# Altium schematic symbol library IC芯片.SchLib: 68 symbols
Pins are listed as number, name and electrical type; pins without a type are passive.

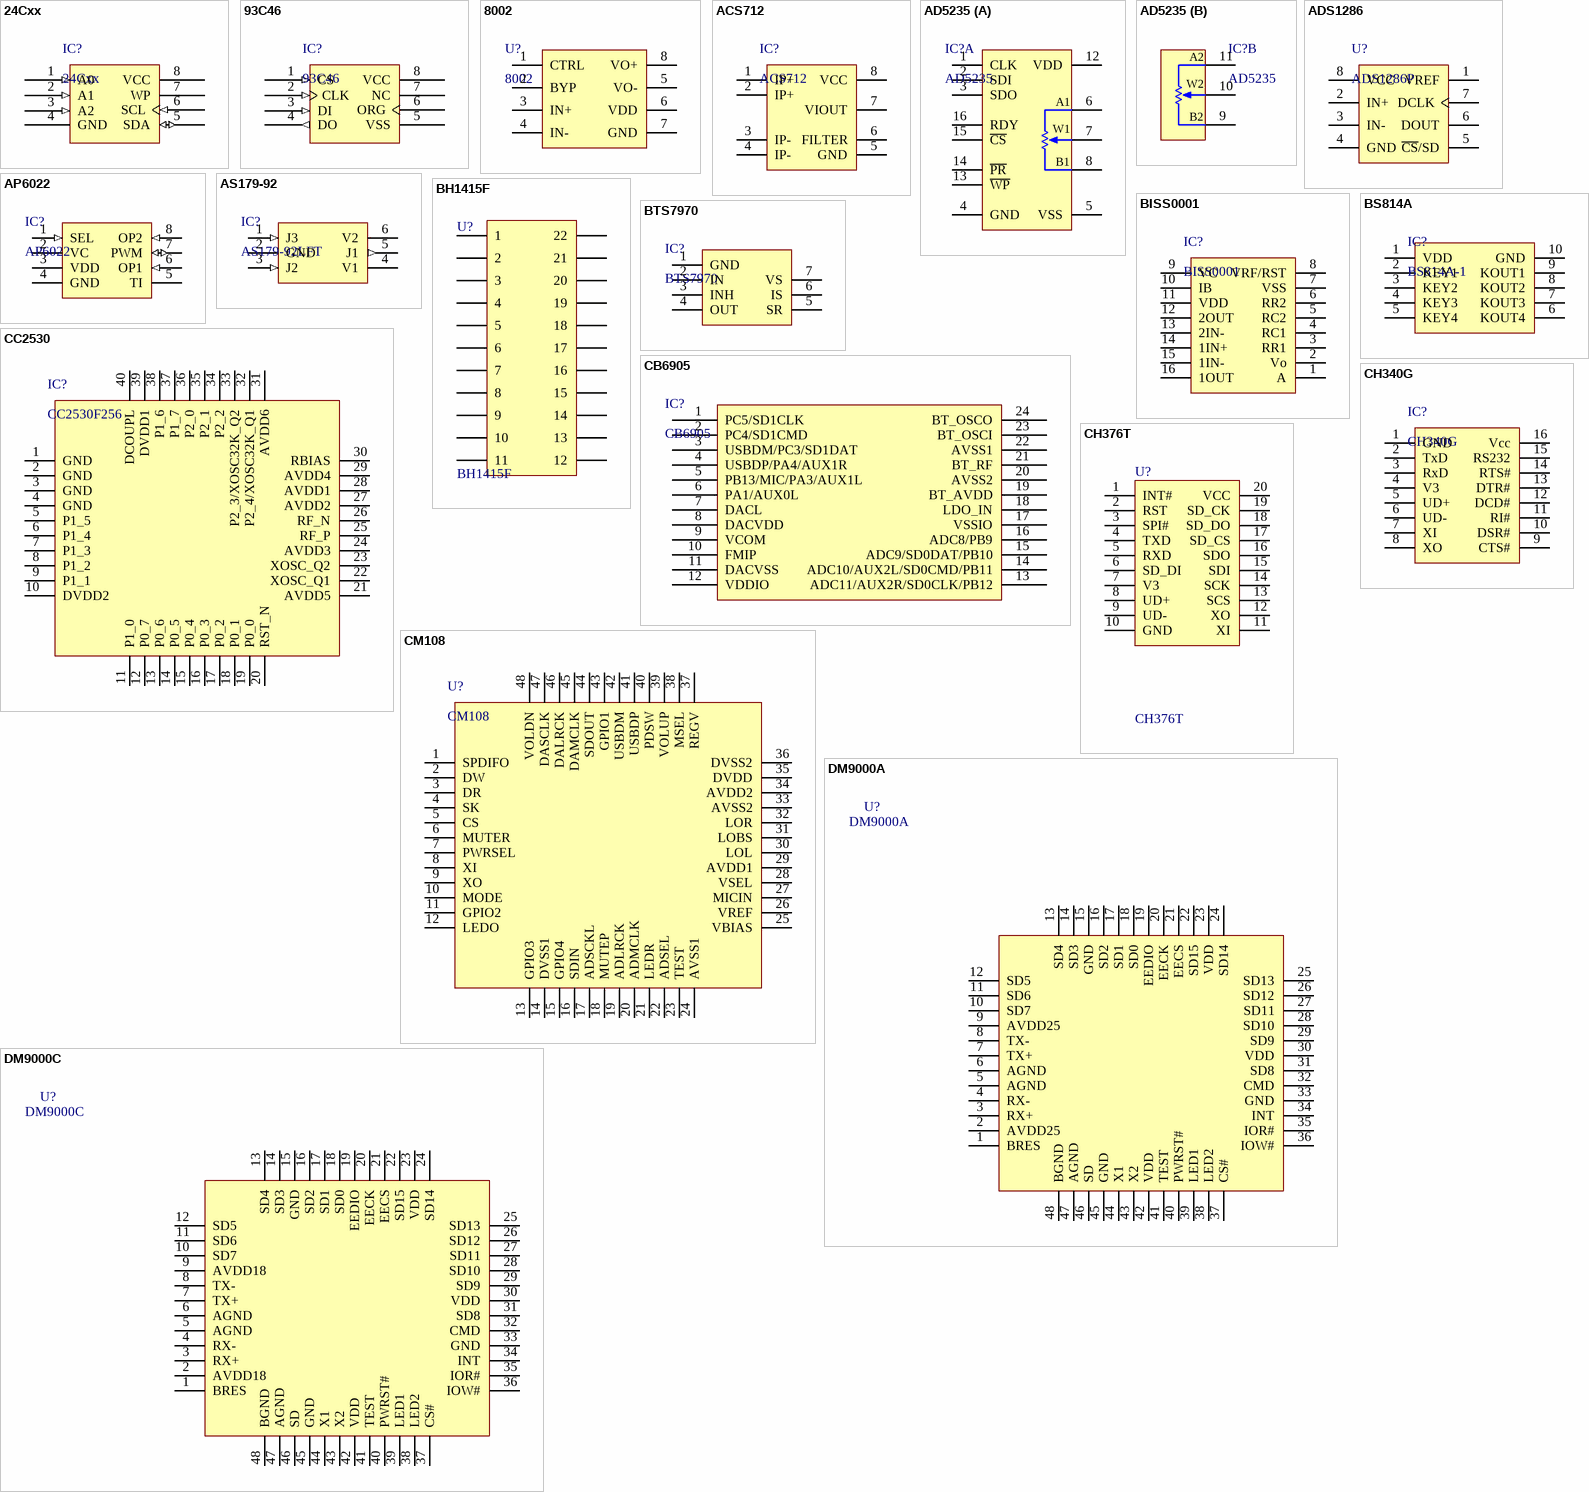
[diagram p0: symbols 24Cxx to DM9000C]

## 24Cxx
designator IC?
外置EEPROM; 版权归属: 源创客; BOM名称: 外置EEPROM; 学习资源: www.ooocke.com
footprint SOP8_L (5*6*1.8mm（长宽高）)
footprint SOP8_N (5*6*1.8mm（长宽高）)
footprint SOP8_M (5*6*1.8mm（长宽高）)
pins: 1 A0 (in), 2 A1 (in), 3 A2 (in), 4 GND, 5 SDA (io), 6 SCL (in), 7 WP, 8 VCC (power)

## 93C46
designator IC?
外置EEPROM; 版权归属: 源创客; BOM名称: 外置EEPROM; 学习资源: www.ooocke.com
footprint SOP8_L (5*6*1.8mm（长宽高）)
footprint SOP8_N (5*6*1.8mm（长宽高）)
footprint SOP8_M (5*6*1.8mm（长宽高）)
footprint DIP8-300_MH (带底座 9.4*7.6*3.8(长宽高）)
footprint DIP8-300 (9.4*7.6*3.8(长宽高）)
pins: 1 CS (in), 2 CLK (in), 3 DI (in), 4 DO (out), 5 VSS, 6 ORG, 7 NC, 8 VCC (power)

## 8002
designator U?
3W功放芯片; 版权归属: 源创客; BOM名称: 3W功放芯片; 学习资源: www.ooocke.com
footprint SOP8_N (5*6*1.8mm（长宽高）)
footprint SOP8_L (4*5*1.8mm（长宽高）)
footprint SOP8_M (5*6*1.8mm（长宽高）)
pins: 1 CTRL, 2 BYP, 3 IN+, 4 IN-, 5 VO-, 6 VDD, 7 GND, 8 VO+

## ACS712
designator IC?
电流检测芯片; 版权归属: 源创客; BOM名称: 电流检测芯片; 学习资源: www.ooocke.com
footprint SOP8_N (5*6*1.8mm（长宽高）)
footprint SOP8_L (5*6*1.8mm（长宽高）)
footprint SOP8_M (5*6*1.8mm（长宽高）)
pins: 1 IP+, 2 IP+, 3 IP-, 4 IP-, 5 GND, 6 FILTER, 7 VIOUT, 8 VCC

## AD5235
designator IC?
数字电位器; 版权归属: 源创客; BOM名称: 数字电位器; 学习资源: www.ooocke.com
footprint TSSOP16_N (5*6.4*1mm（长宽高）)
footprint TSSOP16_L (5*6.4*1mm（长宽高）)
footprint TSSOP16_M (5*6.4*1mm（长宽高）)
part A pins: 1 CLK, 2 SDI, 3 SDO, 4 GND, 5 VSS, 6 A1, 7 W1, 8 B1, 12 VDD, 13 ~{WP}, 14 ~{PR}, 15 ~{CS}, 16 RDY
part B pins: 9 B2, 10 W2, 11 A2

## ADS1286
designator U?, comment ADS1286P
12位数模转换芯片; 版权归属: 源创客; BOM名称: 12位数模转换芯片; 学习资源: www.ooocke.com
footprint SOP8_L (5*6*1.8mm（长宽高）)
footprint SOP8_M (5*6*1.8mm（长宽高）)
footprint SOP8_N (5*6*1.8mm（长宽高）)
footprint DIP8-300 (9.4*7.6*3.8(长宽高）)
footprint DIP8-300_MH (带底座 9.4*7.6*3.8(长宽高）)
pins: 1 VREF, 2 IN+, 3 IN-, 4 GND, 5 ~{CS}/SD, 6 DOUT, 7 DCLK, 8 VCC

## AP6022
designator IC?
单触摸PWM输出; 版权归属: 源创客; BOM名称: 单触摸PWM输出; 学习资源: www.ooocke.com
footprint SOP8_N (5*6*1.8mm（长宽高）)
footprint SOP8_L (5*6*1.8mm（长宽高）)
footprint SOP8_M (5*6*1.8mm（长宽高）)
pins: 1 SEL (in), 2 VC, 3 VDD (power), 4 GND (power), 5 TI, 6 OP1 (in), 7 PWM (io), 8 OP2 (in)

## AS179-92
designator IC?, comment AS179-92LFT
射频开关芯片; 版权归属: 源创客; BOM名称: 射频开关芯片; 学习资源: www.ooocke.com
footprint SOT36-3N
pins: 1 J3 (in), 2 GND, 3 J2 (in), 4 V1, 5 J1 (out), 6 V2

## BH1415F
designator U?
数字调频发射器; 版权归属: 源创客; BOM名称: 数字调频发射器; 学习资源: www.ooocke.com
footprint SOP22_N (13.6*5.4*1.8mm（长宽高）)
footprint SOP22_L (13.6*5.4*1.8mm（长宽高）)
footprint SOP22_M (13.6*5.4*1.8mm（长宽高）)
pins: 1, 2, 3, 4, 5, 6, 7, 8, 9, 10, 11, 12, 13, 14, 15, 16, 17, 18, 19, 20, 21, 22

## BISS0001
designator IC?
人体红外专用芯片; BOM名称: BIS0001; 版权归属: 源创客; 学习资源: www.ooocke.com
footprint SOP16_N (10.3*6.2*1.8mm（长宽高）)
footprint SOP16_L (10.3*6.2*1.8mm（长宽高）)
footprint SOP16_M (10.3*6.2*1.8mm（长宽高）)
pins: 1 A, 2 Vo, 3 RR1, 4 RC1, 5 RC2, 6 RR2, 7 VSS, 8 VRF/RST, 9 VC, 10 IB, 11 VDD, 12 2OUT, 13 2IN-, 14 1IN+, 15 1IN-, 16 1OUT

## BS814A
designator IC?, comment BS814A-1
4键电容触摸按键芯片; 版权归属: 源创客; BOM名称: 4键电容触摸按键芯片; 学习资源: www.ooocke.com
footprint MSOP10_L (塑封体长3mm，宽3mm，脚距0.5)
footprint MSOP10_N (塑封体长3mm，宽3mm，脚距0.5)
footprint MSOP10_M (塑封体长3mm，宽3mm，脚距0.5)
pins: 1 VDD, 2 KEY1, 3 KEY2, 4 KEY3, 5 KEY4, 6 KOUT4, 7 KOUT3, 8 KOUT2, 9 KOUT1, 10 GND

## BTS7970
designator IC?
电机驱动芯片; 版权归属: 源创客; BOM名称: 电机驱动芯片; 学习资源: www.ooocke.com
footprint TO263-7A (263，7脚晶体管)
footprint TO263-7B (263，7脚晶体管)
pins: 1 GND (power), 2 IN (power), 3 INH (power), 4 OUT (power), 5 SR (power), 6 IS (power), 7 VS (power)

## CB6905
designator IC?
蓝牙芯片; 版权归属: 源创客; BOM名称: 蓝牙芯片; 学习资源: www.ooocke.com
footprint QSOP24_N
pins: 1 PC5/SD1CLK, 2 PC4/SD1CMD, 3 USBDM/PC3/SD1DAT, 4 USBDP/PA4/AUX1R, 5 PB13/MIC/PA3/AUX1L, 6 PA1/AUX0L, 7 DACL, 8 DACVDD, 9 VCOM, 10 FMIP, 11 DACVSS, 12 VDDIO, 13 ADC11/AUX2R/SD0CLK/PB12, 14 ADC10/AUX2L/SD0CMD/PB11, 15 ADC9/SD0DAT/PB10, 16 ADC8/PB9, 17 VSSIO, 18 LDO_IN, 19 BT_AVDD, 20 AVSS2, 21 BT_RF, 22 AVSS1, 23 BT_OSCI, 24 BT_OSCO

## CC2530
designator IC?, comment CC2530F256
ZigBee2.4G无线组网芯片; 版权归属: 源创客; BOM名称: ZigBee2.4G无线组网芯片; 学习资源: www.ooocke.com
footprint QFN40 6X6_L (40脚，体宽：6x6mm，脚距：0.5mm)
footprint QFN40 6X6_M (40脚，体宽：6x6mm，脚距：0.5mm)
footprint QFN40 6X6_N (40脚，体宽：6x6mm，脚距：0.5mm)
pins: 1 GND, 2 GND, 3 GND, 4 GND, 5 P1_5, 6 P1_4, 7 P1_3, 8 P1_2, 9 P1_1, 10 DVDD2, 11 P1_0, 12 P0_7, 13 P0_6, 14 P0_5, 15 P0_4, 16 P0_3, 17 P0_2, 18 P0_1, 19 P0_0, 20 RST_N, 21 AVDD5, 22 XOSC_Q1, 23 XOSC_Q2, 24 AVDD3, 25 RF_P, 26 RF_N, 27 AVDD2, 28 AVDD1, 29 AVDD4, 30 RBIAS, 31 AVDD6, 32 P2_4/XOSC32K_Q1, 33 P2_3/XOSC32K_Q2, 34 P2_2, 35 P2_1, 36 P2_0, 37 P1_7, 38 P1_6, 39 DVDD1, 40 DCOUPL

## CH340G
designator IC?
串口转USB; 版权归属: 源创客; BOM名称: 串口转USB; 学习资源: www.ooocke.com
footprint SOP16_L (10.3*6.2*1.8mm（长宽高）)
footprint SOP16_N (10.3*6.2*1.8mm（长宽高）)
footprint SOP16_M (10.3*6.2*1.8mm（长宽高）)
footprint DIP16-300 (19.3*7.6*3.8(长宽高）)
pins: 1 GND, 2 TxD, 3 RxD, 4 V3, 5 UD+, 6 UD-, 7 XI, 8 XO, 9 CTS#, 10 DSR#, 11 RI#, 12 DCD#, 13 DTR#, 14 RTS#, 15 RS232, 16 Vcc

## CH376T
designator U?
USB控制器; 版权归属: 源创客; BOM名称: USB控制器; 学习资源: www.ooocke.com
footprint SSOP20_N (7.2*7.8*1.6（长宽高）)
footprint SSOP20_L (7.2*7.8*1.6（长宽高）)
footprint SSOP20_M (7.2*7.8*1.6（长宽高）)
pins: 1 INT#, 2 RST, 3 SPI#, 4 TXD, 5 RXD, 6 SD_DI, 7 V3, 8 UD+, 9 UD-, 10 GND, 11 XI, 12 XO, 13 SCS, 14 SCK, 15 SDI, 16 SDO, 17 SD_CS, 18 SD_DO, 19 SD_CK, 20 VCC

## CM108
designator U?
USB耳机声卡; 版权归属: 源创客; BOM名称: USB耳机声卡; 学习资源: www.ooocke.com
footprint LQFP48 7X7_N (48脚，体宽7x7mm，脚距0.5mm)
footprint LQFP48 7X7_L (48脚，体宽7x7mm，脚距0.5mm)
footprint LQFP48 7X7_M (48脚，体宽7x7mm，脚距0.5mm)
pins: 1 SPDIFO, 2 DW, 3 DR, 4 SK, 5 CS, 6 MUTER, 7 PWRSEL, 8 XI, 9 XO, 10 MODE, 11 GPIO2, 12 LEDO, 13 GPIO3, 14 DVSS1, 15 GPIO4, 16 SDIN, 17 ADSCKL, 18 MUTEP, 19 ADLRCK, 20 ADMCLK, 21 LEDR, 22 ADSEL, 23 TEST, 24 AVSS1, 25 VBIAS, 26 VREF, 27 MICIN, 28 VSEL, 29 AVDD1, 30 LOL, 31 LOBS, 32 LOR, 33 AVSS2, 34 AVDD2, 35 DVDD, 36 DVSS2, 37 REGV, 38 MSEL, 39 VOLUP, 40 PDSW, 41 USBDP, 42 USBDM, 43 GPIO1, 44 SDOUT, 45 DAMCLK, 46 DALRCK, 47 DASCLK, 48 VOLDN

## DM9000A
designator U?
网络芯片; 版权归属: 源创客; BOM名称: 网络芯片; 学习资源: www.ooocke.com
footprint LQFP48 7X7_N (48脚，体宽7x7mm，脚距0.5mm)
footprint LQFP48 7X7_L (48脚，体宽7x7mm，脚距0.5mm)
footprint LQFP48 7X7_M (48脚，体宽7x7mm，脚距0.5mm)
pins: 1 BRES, 2 AVDD25, 3 RX+, 4 RX-, 5 AGND, 6 AGND, 7 TX+, 8 TX-, 9 AVDD25, 10 SD7, 11 SD6, 12 SD5, 13 SD4, 14 SD3, 15 GND, 16 SD2, 17 SD1, 18 SD0, 19 EEDIO, 20 EECK, 21 EECS, 22 SD15, 23 VDD, 24 SD14, 25 SD13, 26 SD12, 27 SD11, 28 SD10, 29 SD9, 30 VDD, 31 SD8, 32 CMD, 33 GND, 34 INT, 35 IOR#, 36 IOW#, 37 CS#, 38 LED2, 39 LED1, 40 PWRST#, 41 TEST, 42 VDD, 43 X2, 44 X1, 45 GND, 46 SD, 47 AGND, 48 BGND

## DM9000C
designator U?
网络芯片; 版权归属: 源创客; BOM名称: 网络芯片; 学习资源: www.ooocke.com
footprint LQFP48 7X7_N (48脚，体宽7x7mm，脚距0.5mm)
footprint LQFP48 7X7_L (48脚，体宽7x7mm，脚距0.5mm)
footprint LQFP48 7X7_M (48脚，体宽7x7mm，脚距0.5mm)
pins: 1 BRES, 2 AVDD18, 3 RX+, 4 RX-, 5 AGND, 6 AGND, 7 TX+, 8 TX-, 9 AVDD18, 10 SD7, 11 SD6, 12 SD5, 13 SD4, 14 SD3, 15 GND, 16 SD2, 17 SD1, 18 SD0, 19 EEDIO, 20 EECK, 21 EECS, 22 SD15, 23 VDD, 24 SD14, 25 SD13, 26 SD12, 27 SD11, 28 SD10, 29 SD9, 30 VDD, 31 SD8, 32 CMD, 33 GND, 34 INT, 35 IOR#, 36 IOW#, 37 CS#, 38 LED2, 39 LED1, 40 PWRST#, 41 TEST, 42 VDD, 43 X2, 44 X1, 45 GND, 46 SD, 47 AGND, 48 BGND

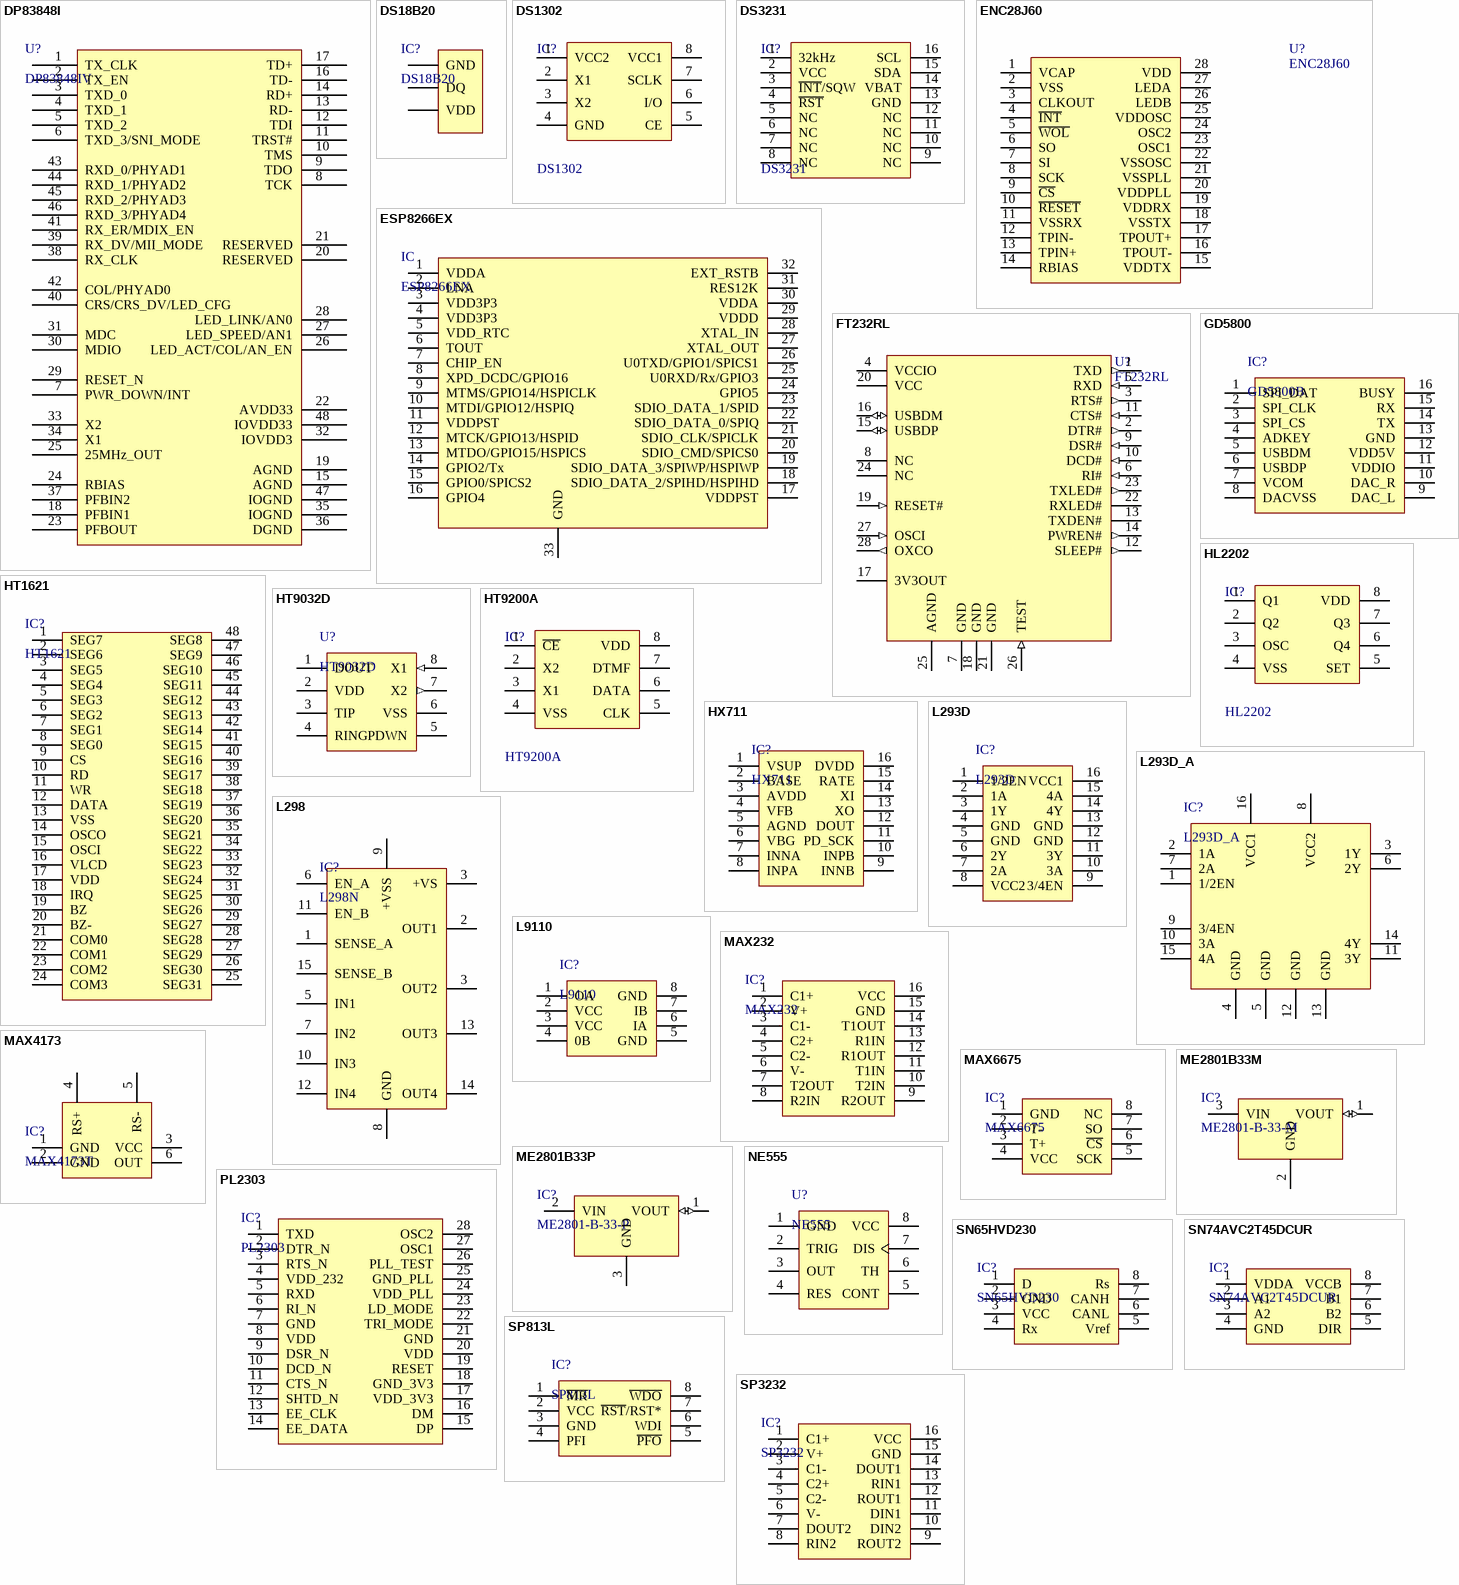
[diagram p1: symbols DP83848I to SP3232]

## DP83848I
designator U?, comment DP83848IV
网络芯片; 版权归属: 源创客; BOM名称: 网络芯片; 学习资源: www.ooocke.com
footprint LQFP48 7X7_N (48脚，体宽7x7mm，脚距0.5mm)
footprint LQFP48 7X7_L (48脚，体宽7x7mm，脚距0.5mm)
footprint LQFP48 7X7_M (48脚，体宽7x7mm，脚距0.5mm)
pins: 1 TX_CLK, 2 TX_EN, 3 TXD_0, 4 TXD_1, 5 TXD_2, 6 TXD_3/SNI_MODE, 7 PWR_DOWN/INT, 8 TCK, 9 TDO, 10 TMS, 11 TRST#, 12 TDI, 13 RD-, 14 RD+, 15 AGND, 16 TD-, 17 TD+, 18 PFBIN1, 19 AGND, 20 RESERVED, 21 RESERVED, 22 AVDD33, 23 PFBOUT, 24 RBIAS, 25 25MHz_OUT, 26 LED_ACT/COL/AN_EN, 27 LED_SPEED/AN1, 28 LED_LINK/AN0, 29 RESET_N, 30 MDIO, 31 MDC, 32 IOVDD3, 33 X2, 34 X1, 35 IOGND, 36 DGND, 37 PFBIN2, 38 RX_CLK, 39 RX_DV/MII_MODE, 40 CRS/CRS_DV/LED_CFG, 41 RX_ER/MDIX_EN, 42 COL/PHYAD0, 43 RXD_0/PHYAD1, 44 RXD_1/PHYAD2, 45 RXD_2/PHYAD3, 46 RXD_3/PHYAD4, 47 IOGND, 48 IOVDD33

## DS18B20
designator IC?
数字温度计; 版权归属: 源创客; BOM名称: 数字温度计; 学习资源: www.ooocke.com
footprint TO92A (92晶体管)
footprint TO92B (92晶体管)
pins: 1 GND, 2 DQ, 3 VDD

## DS1302
designator IC?
实时时钟芯片; 版权归属: 源创客; BOM名称: 实时时钟芯片; 学习资源: www.ooocke.com
footprint SOP8_N (5*6*1.8mm（长宽高）)
footprint SOP8_L (5*6*1.8mm（长宽高）)
footprint SOP8_M (5*6*1.8mm（长宽高）)
footprint DIP8-300 (9.4*7.6*3.8(长宽高）)
pins: 1 VCC2, 2 X1, 3 X2, 4 GND, 5 CE, 6 I/O, 7 SCLK, 8 VCC1

## DS3231
designator IC?
高精度时钟芯片; 版权归属: 源创客; BOM名称: 高精度时钟芯片; 学习资源: www.ooocke.com
footprint SOP16W_N (10.3*10.3*2.6mm（长宽高）)
footprint SOP16W_L (10.3*10.3*2.6mm（长宽高）)
footprint SOP16W_M (10.3*10.3*2.6mm（长宽高）)
pins: 1 32kHz, 2 VCC, 3 ~{INT}/SQW, 4 ~{RST}, 5 NC, 6 NC, 7 NC, 8 NC, 9 NC, 10 NC, 11 NC, 12 NC, 13 GND, 14 VBAT, 15 SDA, 16 SCL

## ENC28J60
designator U?
SPI以太网控制芯片; 版权归属: 源创客; BOM名称: SPI以太网控制芯片; 学习资源: www.ooocke.com
footprint SSOP28_N (10.2*7.8*1.9mm(长宽高）)
footprint SSOP28_L (10.2*7.8*1.9mm(长宽高）)
footprint SSOP28_M (10.2*7.8*1.9mm(长宽高）)
pins: 1 VCAP, 2 VSS, 3 CLKOUT, 4 ~{INT}, 5 ~{WOL}, 6 SO, 7 SI, 8 SCK, 9 ~{CS}, 10 ~{RESET}, 11 VSSRX, 12 TPIN-, 13 TPIN+, 14 RBIAS, 15 VDDTX, 16 TPOUT-, 17 TPOUT+, 18 VSSTX, 19 VDDRX, 20 VDDPLL, 21 VSSPLL, 22 VSSOSC, 23 OSC1, 24 OSC2, 25 VDDOSC, 26 LEDB, 27 LEDA, 28 VDD

## ESP8266EX
designator IC
WIFI-芯片; 版权归属: 源创客; BOM名称: WIFI-芯片; 学习资源: www.ooocke.com
footprint QFN32 5x5_L (32脚，长：5mm，宽：5mm，高：9.5mm)
footprint QFN32 5x5_M (32脚，长：5mm，宽：5mm，高：9.5mm)
footprint QFN32 5x5_N (32脚，长：5mm，宽：5mm，高：9.5mm)
pins: 1 VDDA, 2 LNA, 3 VDD3P3, 4 VDD3P3, 5 VDD_RTC, 6 TOUT, 7 CHIP_EN, 8 XPD_DCDC/GPIO16, 9 MTMS/GPIO14/HSPICLK, 10 MTDI/GPIO12/HSPIQ, 11 VDDPST, 12 MTCK/GPIO13/HSPID, 13 MTDO/GPIO15/HSPICS, 14 GPIO2/Tx, 15 GPIO0/SPICS2, 16 GPIO4, 17 VDDPST, 18 SDIO_DATA_2/SPIHD/HSPIHD, 19 SDIO_DATA_3/SPIWP/HSPIWP, 20 SDIO_CMD/SPICS0, 21 SDIO_CLK/SPICLK, 22 SDIO_DATA_0/SPIQ, 23 SDIO_DATA_1/SPID, 24 GPIO5, 25 U0RXD/Rx/GPIO3, 26 U0TXD/GPIO1/SPICS1, 27 XTAL_OUT, 28 XTAL_IN, 29 VDDD, 30 VDDA, 31 RES12K, 32 EXT_RSTB, 33 GND

## FT232RL
designator U?
USB转串口; 版权归属: 源创客; BOM名称: USB转串口; 学习资源: www.ooocke.com
footprint SSOP28_N (10.2*7.8*1.9mm(长宽高）)
footprint SSOP28_L (10.2*7.8*1.9mm(长宽高）)
footprint SSOP28_M (10.2*7.8*1.9mm(长宽高）)
pins: 1 TXD (out), 2 DTR# (out), 3 RTS# (out), 4 VCCIO (power), 5 RXD (in), 6 RI# (in), 7 GND (power), 8 NC, 9 DSR# (in), 10 DCD# (in), 11 CTS# (in), 12 SLEEP# (out), 13 TXDEN# (oc), 14 PWREN# (out), 15 USBDP (io), 16 USBDM (io), 17 3V3OUT (power), 18 GND (power), 19 RESET# (in), 20 VCC (power), 21 GND (power), 22 RXLED# (oc), 23 TXLED# (out), 24 NC, 25 AGND (power), 26 TEST (in), 27 OSCI (in), 28 OXCO (out)

## GD5800
designator IC?, comment GD5800B
串口MP3语音芯片; 版权归属: 源创客; BOM名称: 串口MP3语音芯片; 学习资源: www.ooocke.com
footprint SOP16_L (10.3*6.2*1.8mm（长宽高）)
footprint SOP16_N (10.3*6.2*1.8mm（长宽高）)
footprint SOP16_M (10.3*6.2*1.8mm（长宽高）)
pins: 1 SPI_DAT, 2 SPI_CLK, 3 SPI_CS, 4 ADKEY, 5 USBDM, 6 USBDP, 7 VCOM, 8 DACVSS, 9 DAC_L, 10 DAC_R, 11 VDDIO, 12 VDD5V, 13 GND, 14 TX, 15 RX, 16 BUSY

## HL2202
designator IC?
灯光控制芯片; 版权归属: 源创客; BOM名称: 灯光控制芯片; 学习资源: www.ooocke.com
footprint SOP8_N (5*6*1.8mm（长宽高）)
footprint SOP8_L (5*6*1.8mm（长宽高）)
footprint SOP8_M (5*6*1.8mm（长宽高）)
footprint DIP8-300 (9.4*7.6*3.8(长宽高）)
pins: 1 Q1, 2 Q2, 3 OSC, 4 VSS, 5 SET, 6 Q4, 7 Q3, 8 VDD

## HT1621
designator IC?
LCD驱动芯片; 版权归属: 源创客; BOM名称: LCD驱动芯片; 学习资源: www.ooocke.com
footprint SSOP48_N (16*10.3*2.4mm（长宽高）)
footprint SSOP48_L (16*10.3*2.4mm（长宽高）)
footprint SSOP48_M (16*10.3*2.4mm（长宽高）)
pins: 1 SEG7, 2 SEG6, 3 SEG5, 4 SEG4, 5 SEG3, 6 SEG2, 7 SEG1, 8 SEG0, 9 CS, 10 RD, 11 WR, 12 DATA, 13 VSS, 14 OSCO, 15 OSCI, 16 VLCD, 17 VDD, 18 IRQ, 19 BZ, 20 BZ-, 21 COM0, 22 COM1, 23 COM2, 24 COM3, 25 SEG31, 26 SEG30, 27 SEG29, 28 SEG28, 29 SEG27, 30 SEG26, 31 SEG25, 32 SEG24, 33 SEG23, 34 SEG22, 35 SEG21, 36 SEG20, 37 SEG19, 38 SEG18, 39 SEG17, 40 SEG16, 41 SEG15, 42 SEG14, 43 SEG13, 44 SEG12, 45 SEG11, 46 SEG10, 47 SEG9, 48 SEG8

## HT9032D
designator U?
来电显示芯片; 版权归属: 源创客; BOM名称: 来电显示芯片; 学习资源: www.ooocke.com
footprint SOP8_L (5*6*1.8mm（长宽高）)
footprint SOP8_M (5*6*1.8mm（长宽高）)
footprint SOP8_N (5*6*1.8mm（长宽高）)
footprint DIP8-300 (9.4*7.6*3.8(长宽高）)
footprint DIP8-300_MH (带底座 9.4*7.6*3.8(长宽高）)
pins: 1 DOUT, 2 VDD, 3 TIP, 4 RING, 5 PDWN, 6 VSS, 7 X2 (out), 8 X1 (in)

## HT9200A
designator IC?
双音多频DTMF信号发生器; 版权归属: 源创客; BOM名称: 双音多频DTMF信号发生器; 学习资源: www.ooocke.com
footprint SOP8_N (5*6*1.8mm（长宽高）)
footprint SOP8_L (5*6*1.8mm（长宽高）)
footprint SOP8_M (5*6*1.8mm（长宽高）)
footprint DIP8-300 (9.4*7.6*3.8(长宽高）)
pins: 1 ~{CE}, 2 X2, 3 X1, 4 VSS, 5 CLK, 6 DATA, 7 DTMF, 8 VDD

## HX711
designator IC?
电子秤AD芯片; 版权归属: 源创客; BOM名称: 电子秤AD芯片; 学习资源: www.ooocke.com
footprint SOP16_N (10.3*6.2*1.8mm（长宽高）)
footprint SOP16_L (10.3*6.2*1.8mm（长宽高）)
footprint SOP16_M (10.3*6.2*1.8mm（长宽高）)
pins: 1 VSUP, 2 BASE, 3 AVDD, 4 VFB, 5 AGND, 6 VBG, 7 INNA, 8 INPA, 9 INNB, 10 INPB, 11 PD_SCK, 12 DOUT, 13 XO, 14 XI, 15 RATE, 16 DVDD

## L293D
designator IC?
电机驱动H桥; 版权归属: 源创客; BOM名称: 电机驱动H桥; 学习资源: www.ooocke.com
footprint DIP16-300 (19.3*7.6*3.8(长宽高）)
footprint DIP16-300_MH (带底座 19.3*7.6*3.8(长宽高）)
pins: 1 1/2EN, 2 1A, 3 1Y, 4 GND, 5 GND, 6 2Y, 7 2A, 8 VCC2, 9 3/4EN, 10 3A, 11 3Y, 12 GND, 13 GND, 14 4Y, 15 4A, 16 VCC1

## L293D_A
designator IC?
电机驱动H桥; 版权归属: 源创客; BOM名称: 电机驱动H桥; 学习资源: www.ooocke.com
footprint DIP16-300 (19.3*7.6*3.8(长宽高）)
footprint DIP16-300_MH (带底座 19.3*7.6*3.8(长宽高）)
pins: 1 1/2EN, 2 1A, 3 1Y, 4 GND, 5 GND, 6 2Y, 7 2A, 8 VCC2, 9 3/4EN, 10 3A, 11 3Y, 12 GND, 13 GND, 14 4Y, 15 4A, 16 VCC1

## L298
designator IC?, comment L298N
电机驱动H桥; 版权归属: 源创客; BOM名称: 电机驱动H桥; 学习资源: www.ooocke.com
footprint TO220-15T (ZIP15脚铁封)
pins: 1 SENSE_A, 2 OUT1, 3 OUT2, 3 +VS, 5 IN1, 6 EN_A, 7 IN2, 8 GND, 9 +VSS, 10 IN3, 11 EN_B, 12 IN4, 13 OUT3, 14 OUT4, 15 SENSE_B

## L9110
designator IC?
直流电机控制芯片; 版权归属: 源创客; BOM名称: 直流电机控制芯片; 学习资源: www.ooocke.com
footprint DIP8-300 (9.4*7.6*3.8(长宽高）)
footprint SOP8_L (5*6*1.8mm（长宽高）)
footprint SOP8_N (5*6*1.8mm（长宽高）)
footprint SOP8_M (5*6*1.8mm（长宽高）)
pins: 1 OA, 2 VCC, 3 VCC, 4 0B, 5 GND, 6 IA, 7 IB, 8 GND

## MAX232
designator IC?
版权归属: 源创客; BOM名称: MAX232; 学习资源: www.ooocke.com
footprint DIP16-300 (19.3*7.6*3.8(长宽高）)
footprint SOP16_L (10.3*6.2*1.8mm（长宽高）)
footprint SOP16_N (10.3*6.2*1.8mm（长宽高）)
footprint SOP16_M (10.3*6.2*1.8mm（长宽高）)
pins: 1 C1+, 2 V+, 3 C1-, 4 C2+, 5 C2-, 6 V-, 7 T2OUT, 8 R2IN, 9 R2OUT, 10 T2IN, 11 T1IN, 12 R1OUT, 13 R1IN, 14 T1OUT, 15 GND, 16 VCC

## MAX4173
designator IC?, comment MAX4173T
高端电流检测; 版权归属: 源创客; BOM名称: 高端电流检测; 学习资源: www.ooocke.com
footprint SOT23-6N (3x1.6x1.1mm(长宽高))
footprint SOT23-6L (3x1.6x1.1mm(长宽高))
footprint SOT23-6M (3x1.6x1.1mm(长宽高))
pins: 1 GND, 2 GND, 3 VCC, 4 RS+, 5 RS-, 6 OUT

## MAX6675
designator IC?
K型热电偶检测芯片; 版权归属: 源创客; BOM名称: K型热电偶检测芯片; 学习资源: www.ooocke.com
footprint SOP8_N (5*6*1.8mm（长宽高）)
footprint SOP8_L (5*6*1.8mm（长宽高）)
footprint SOP8_M (5*6*1.8mm（长宽高）)
pins: 1 GND, 2 T-, 3 T+, 4 VCC, 5 SCK, 6 ~{CS}, 7 SO, 8 NC

## ME2801B33M
designator IC?, comment ME2801-B-33-M
3.3V电压检测芯片; BOM名称: 电压检测芯片; 版权归属: 源创客; 描述: 复位低电平，CMOS型输出; 学习资源: www.ooocke.com
footprint SOT23-3N (3x1.3x1mm(长宽高))
footprint SOT23-3L (3x1.3x1mm(长宽高))
footprint SOT23-3M (3x1.3x1mm(长宽高))
pins: 1 VOUT (io), 2 GND (power), 3 VIN (power)

## ME2801B33P
designator IC?, comment ME2801-B-33-P
3.3V电压检测芯片; BOM名称: 电压检测芯片; 版权归属: 源创客; 描述: 复位低电平，CMOS型输出; 学习资源: www.ooocke.com
footprint SOT89_N (4.6x4.3x1.6mm(长宽高))
footprint SOT89_L (4.6x4.3x1.6mm(长宽高))
footprint SOT89_M (4.6x4.3x1.6mm(长宽高))
pins: 1 VOUT (io), 2 VIN (power), 3 GND (power)

## NE555
designator U?
单路时基芯片; 版权归属: 源创客; BOM名称: 单路时基芯片; 学习资源: www.ooocke.com
footprint SOP8_L (5*6*1.8mm（长宽高）)
footprint SOP8_M (5*6*1.8mm（长宽高）)
footprint SOP8_N (5*6*1.8mm（长宽高）)
footprint DIP8-300 (9.4*7.6*3.8(长宽高）)
footprint DIP8-300_MH (带底座 9.4*7.6*3.8(长宽高）)
pins: 1 GND, 2 TRIG, 3 OUT, 4 RES, 5 CONT, 6 TH, 7 DIS, 8 VCC

## PL2303
designator IC?
USB转RS232; 版权归属: 源创客; BOM名称: USB转RS232; 学习资源: www.ooocke.com
footprint SSOP28_N (10.2*7.8*1.9mm(长宽高）)
footprint SSOP28_L (10.2*7.8*1.9mm(长宽高）)
footprint SSOP28_M (10.2*7.8*1.9mm(长宽高）)
pins: 1 TXD, 2 DTR_N, 3 RTS_N, 4 VDD_232, 5 RXD, 6 RI_N, 7 GND, 8 VDD, 9 DSR_N, 10 DCD_N, 11 CTS_N, 12 SHTD_N, 13 EE_CLK, 14 EE_DATA, 15 DP, 16 DM, 17 VDD_3V3, 18 GND_3V3, 19 RESET, 20 VDD, 21 GND, 22 TRI_MODE, 23 LD_MODE, 24 VDD_PLL, 25 GND_PLL, 26 PLL_TEST, 27 OSC1, 28 OSC2

## SN65HVD230
designator IC?
CAN芯片; 版权归属: 源创客; BOM名称: CAN芯片; 学习资源: www.ooocke.com
footprint SOP8_N (5*6*1.8mm（长宽高）)
footprint SOP8_L (5*6*1.8mm（长宽高）)
footprint SOP8_M (5*6*1.8mm（长宽高）)
pins: 1 D, 2 GND, 3 VCC, 4 Rx, 5 Vref, 6 CANL, 7 CANH, 8 Rs

## SN74AVC2T45DCUR
designator IC?
3态输出; BOM名称: 双位3态输出; 版权归属: 源创客; 学习资源: www.ooocke.com
footprint TSSOP8_N (规格：3*6.4*1.1mm（长宽高）)
footprint TSSOP8_l (3*4.2*1mm（长宽高）)
footprint TSSOP8_M (3*4.2*1mm（长宽高）)
pins: 1 VDDA, 2 A1, 3 A2, 4 GND, 5 DIR, 6 B2, 7 B1, 8 VCCB

## SP813L
designator IC?
处理器监控芯片; 版权归属: 源创客; BOM名称: 处理器监控芯片; 学习资源: www.ooocke.com
footprint SOP8_L (5*6*1.8mm（长宽高）)
footprint SOP8_N (5*6*1.8mm（长宽高）)
footprint SOP8_M (5*6*1.8mm（长宽高）)
pins: 1 ~{MR}, 2 VCC, 3 GND, 4 PFI, 5 ~{PFO}, 6 WDI, 7 ~{RST}/RST*, 8 ~{WDO}

## SP3232
designator IC?
RS232通讯芯片; 版权归属: 源创客; BOM名称: RS232通讯芯片; 学习资源: www.ooocke.com
footprint DIP16-300 (19.3*7.6*3.8(长宽高）)
footprint SOP16_L (10.3*6.2*1.8mm（长宽高）)
footprint SOP16_N (10.3*6.2*1.8mm（长宽高）)
footprint SOP16_M (10.3*6.2*1.8mm（长宽高）)
footprint TSSOP16_L (5*6.4*1mm（长宽高）)
footprint TSSOP16_M (5*6.4*1mm（长宽高）)
footprint TSSOP16_N (5*6.4*1mm（长宽高）)
pins: 1 C1+, 2 V+, 3 C1-, 4 C2+, 5 C2-, 6 V-, 7 DOUT2, 8 RIN2, 9 ROUT2, 10 DIN2, 11 DIN1, 12 ROUT1, 13 RIN1, 14 DOUT1, 15 GND, 16 VCC

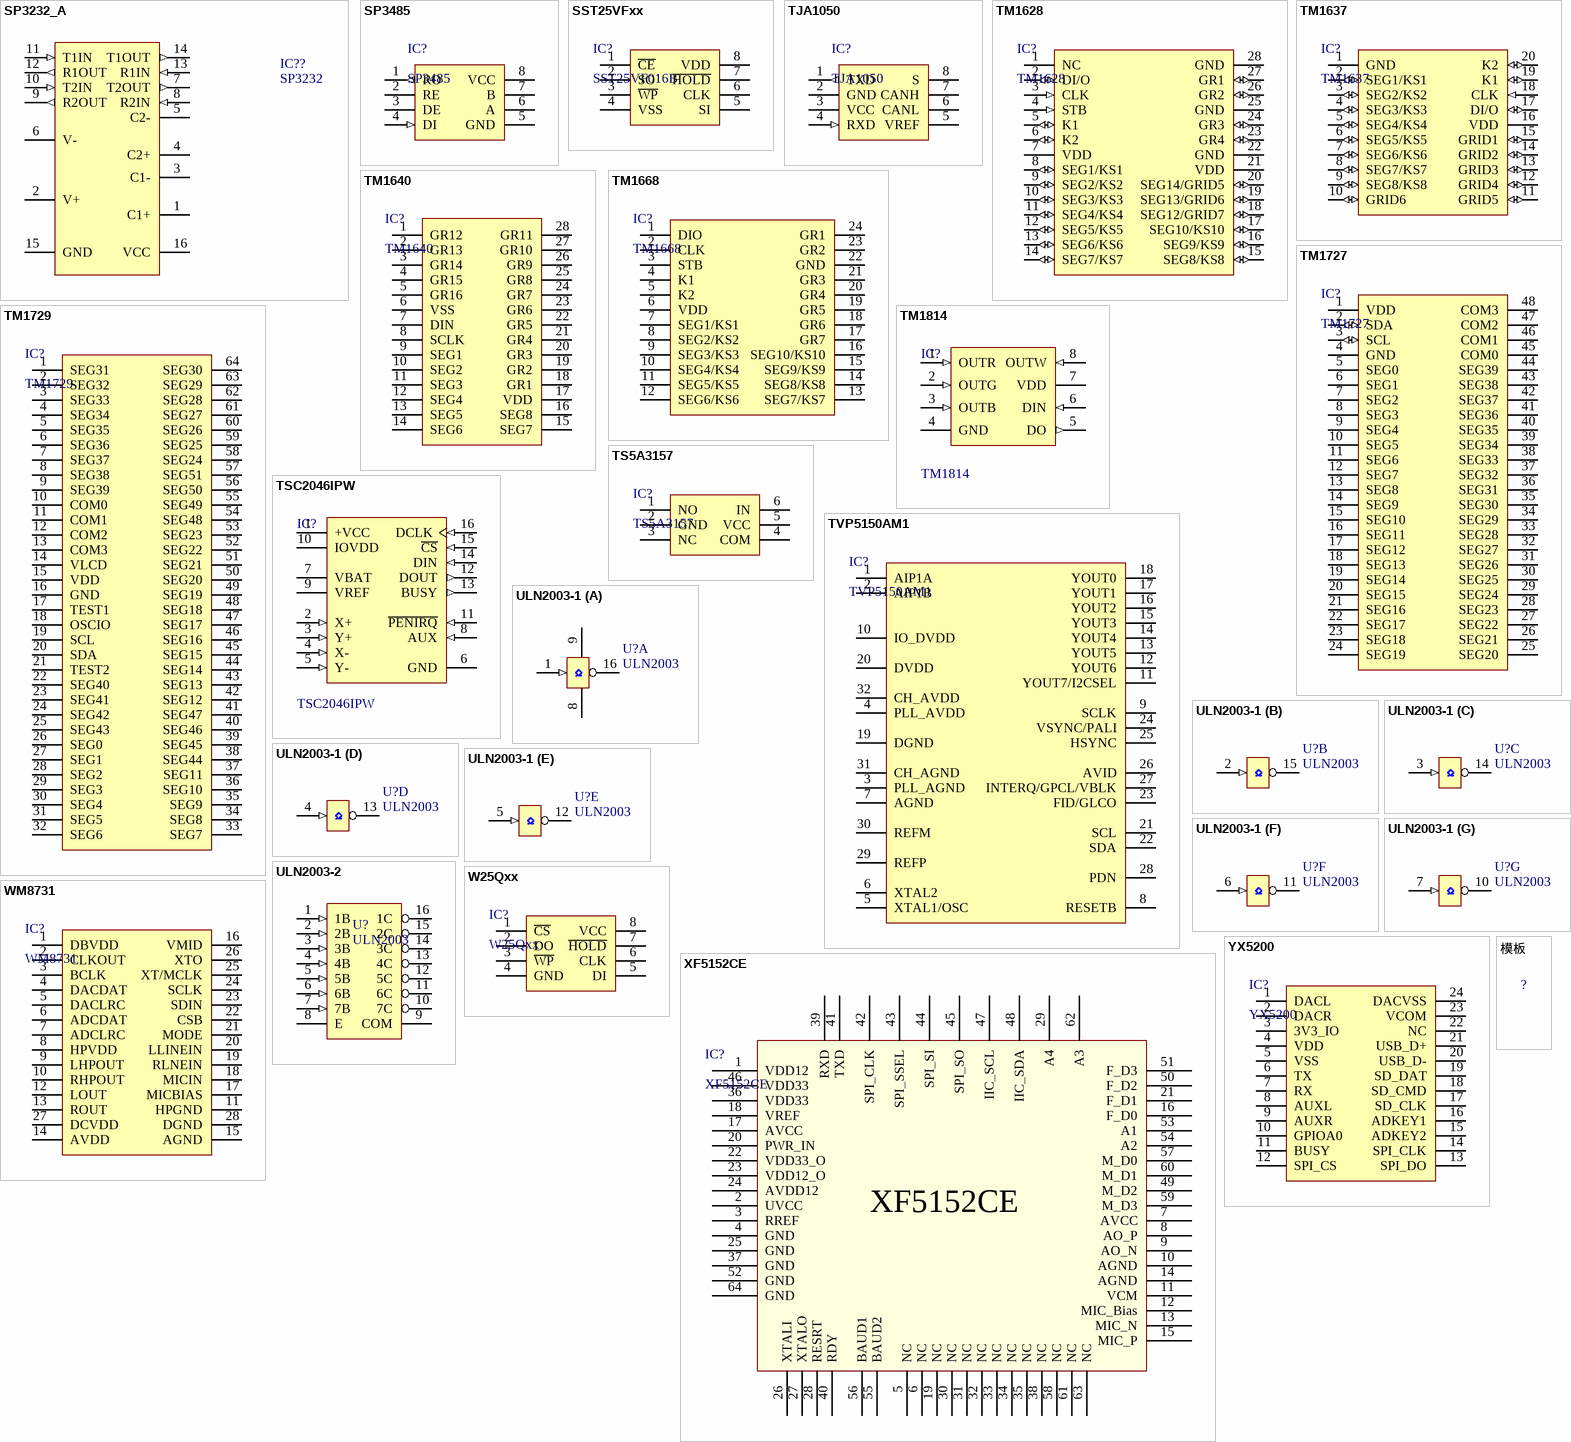
[diagram p2: symbols SP3232_A to 模板]

## SP3232_A
designator IC??, comment SP3232
RS232转换芯片; 版权归属: 源创客; BOM名称: RS232转换芯片; 学习资源: www.ooocke.com
footprint SOP16_L (10.3*6.2*1.8mm（长宽高）)
footprint SOP16_N (10.3*6.2*1.8mm（长宽高）)
footprint SOP16_M (10.3*6.2*1.8mm（长宽高）)
footprint DIP16-300 (19.3*7.6*3.8(长宽高）)
footprint TSSOP16_L (5*6.4*1mm（长宽高）)
footprint TSSOP16_M (5*6.4*1mm（长宽高）)
footprint TSSOP16_N (5*6.4*1mm（长宽高）)
pins: 1 C1+, 2 V+, 3 C1-, 4 C2+, 5 C2-, 6 V-, 7 T2OUT (out), 8 R2IN (in), 9 R2OUT (out), 10 T2IN (in), 11 T1IN (in), 12 R1OUT (out), 13 R1IN (in), 14 T1OUT (out), 15 GND, 16 VCC

## SP3485
designator IC?
RS485总线收发芯片; 版权归属: 源创客; BOM名称: RS485总线收发芯片; 学习资源: www.ooocke.com
footprint SOP8_L (5*6*1.8mm（长宽高）)
footprint SOP8_N (5*6*1.8mm（长宽高）)
footprint SOP8_M (5*6*1.8mm（长宽高）)
pins: 1 RO (out), 2 RE, 3 DE, 4 DI (in), 5 GND, 6 A, 7 B, 8 VCC

## SST25VFxx
designator IC?, comment SST25VF016B
外置Flash; 版权归属: 源创客; BOM名称: 外置Flash; 学习资源: www.ooocke.com
footprint SOP8W_N (5.3*8.3*1.8mm（长宽高）)
footprint SOP8W_L (5.3*8.3*1.8mm（长宽高）)
footprint SOP8W_M (5.3*8.3*1.8mm（长宽高）)
pins: 1 ~{CE}, 2 SO, 3 ~{WP}, 4 VSS, 5 SI, 6 CLK, 7 ~{HOLD}, 8 VDD

## TJA1050
designator IC?
CAN总线收发芯片; 版权归属: 源创客; BOM名称: CAN总线收发芯片; 学习资源: www.ooocke.com
footprint SOP8_L (5*6*1.8mm（长宽高）)
footprint SOP8_N (5*6*1.8mm（长宽高）)
footprint SOP8_M (5*6*1.8mm（长宽高）)
pins: 1 TXD (out), 2 GND, 3 VCC, 4 RXD (in), 5 VREF, 6 CANL, 7 CANH, 8 S

## TM1628
designator IC?
数码管按键扫描芯片; BOM名称: 数码管按键芯片; 版权归属: 源创客; 学习资源: www.ooocke.com
footprint SOP28_N (17.9*10.6*2.6mm（长宽高）)
footprint SOP28_L (17.9*10.6*2.6mm（长宽高）)
footprint SOP28_M (17.9*10.6*2.6mm（长宽高）)
pins: 1 NC, 2 DI/O (io), 3 CLK (in), 4 STB (in), 5 K1 (io), 6 K2 (io), 7 VDD (power), 8 SEG1/KS1 (io), 9 SEG2/KS2 (io), 10 SEG3/KS3 (io), 11 SEG4/KS4 (io), 12 SEG5/KS5 (io), 13 SEG6/KS6 (io), 14 SEG7/KS7 (io), 15 SEG8/KS8 (io), 16 SEG9/KS9 (io), 17 SEG10/KS10 (io), 18 SEG12/GRID7 (io), 19 SEG13/GRID6 (io), 20 SEG14/GRID5 (io), 21 VDD (power), 22 GND (power), 23 GR4 (io), 24 GR3 (io), 25 GND (power), 26 GR2 (io), 27 GR1 (io), 28 GND (power)

## TM1637
designator IC?
数码管按键扫描芯片; BOM名称: 数码管按键芯片; 版权归属: 源创客; 学习资源: www.ooocke.com
footprint SOP20_N (13*10.6*2.6（长宽高）)
footprint SOP20_L (13*10.6*2.6（长宽高）)
footprint SOP20_M (13*10.6*2.6（长宽高）)
pins: 1 GND (power), 2 SEG1/KS1 (io), 3 SEG2/KS2 (io), 4 SEG3/KS3 (io), 5 SEG4/KS4 (io), 6 SEG5/KS5 (io), 7 SEG6/KS6 (io), 8 SEG7/KS7 (io), 9 SEG8/KS8 (io), 10 GRID6 (io), 11 GRID5 (io), 12 GRID4 (io), 13 GRID3 (io), 14 GRID2 (io), 15 GRID1 (io), 16 VDD (power), 17 DI/O (io), 18 CLK (in), 19 K1 (io), 20 K2 (io)

## TM1640
designator IC?
LED驱动控制芯片; 版权归属: 源创客; BOM名称: LED驱动控制芯片; 学习资源: www.ooocke.com
footprint SOP28_L (17.9*10.6*2.6mm（长宽高）)
footprint SOP28_M (17.9*10.6*2.6mm（长宽高）)
footprint SOP28_N (17.9*10.6*2.6mm（长宽高）)
pins: 1 GR12, 2 GR13, 3 GR14, 4 GR15, 5 GR16, 6 VSS, 7 DIN, 8 SCLK, 9 SEG1, 10 SEG2, 11 SEG3, 12 SEG4, 13 SEG5, 14 SEG6, 15 SEG7, 16 SEG8, 17 VDD, 18 GR1, 19 GR2, 20 GR3, 21 GR4, 22 GR5, 23 GR6, 24 GR7, 25 GR8, 26 GR9, 27 GR10, 28 GR11

## TM1668
designator IC?
数码管按键扫描芯片; BOM名称: 数码管按键芯片; 版权归属: 源创客; 学习资源: www.ooocke.com
footprint SOP24_N (15.4*10.6*2.6mm（长宽高）)
footprint SOP24_L (15.4*10.6*2.6mm（长宽高）)
footprint SOP24_M (15.4*10.6*2.6mm（长宽高）)
pins: 1 DIO, 2 CLK, 3 STB, 4 K1, 5 K2, 6 VDD, 7 SEG1/KS1, 8 SEG2/KS2, 9 SEG3/KS3, 10 SEG4/KS4, 11 SEG5/KS5, 12 SEG6/KS6, 13 SEG7/KS7, 14 SEG8/KS8, 15 SEG9/KS9, 16 SEG10/KS10, 17 GR7, 18 GR6, 19 GR5, 20 GR4, 21 GR3, 22 GND, 23 GR2, 24 GR1

## TM1727
designator IC?
LCD驱动IC; 版权归属: 源创客; BOM名称: LCD驱动IC; 学习资源: www.ooocke.com
footprint SSOP48_N (16*10.3*2.4mm（长宽高）)
footprint SSOP48_L (16*10.3*2.4mm（长宽高）)
footprint SSOP48_M (16*10.3*2.4mm（长宽高）)
pins: 1 VDD (power), 2 SDA (io), 3 SCL (io), 4 GND (power), 5 SEG0, 6 SEG1, 7 SEG2, 8 SEG3, 9 SEG4, 10 SEG5, 11 SEG6, 12 SEG7, 13 SEG8, 14 SEG9, 15 SEG10, 16 SEG11, 17 SEG12, 18 SEG13, 19 SEG14, 20 SEG15, 21 SEG16, 22 SEG17, 23 SEG18, 24 SEG19, 25 SEG20, 26 SEG21, 27 SEG22, 28 SEG23, 29 SEG24, 30 SEG25, 31 SEG26, 32 SEG27, 33 SEG28, 34 SEG29, 35 SEG30, 36 SEG31, 37 SEG32, 38 SEG33, 39 SEG34, 40 SEG35, 41 SEG36, 42 SEG37, 43 SEG38, 44 SEG39, 45 COM0, 46 COM1, 47 COM2, 48 COM3

## TM1729
designator IC?
LCD驱动IC; 版权归属: 源创客; BOM名称: LCD驱动IC; 学习资源: www.ooocke.com
footprint LQFP64 7X7_N (64脚，体宽：7x7mm, 脚距：0.4mm)
footprint LQFP64 7X7_L (64脚，体宽：7x7mm, 脚距：0.4mm)
footprint LQFP64 7X7_M (64脚，体宽：7x7mm, 脚距：0.4mm)
pins: 1 SEG31, 2 SEG32, 3 SEG33, 4 SEG34, 5 SEG35, 6 SEG36, 7 SEG37, 8 SEG38, 9 SEG39, 10 COM0, 11 COM1, 12 COM2, 13 COM3, 14 VLCD, 15 VDD, 16 GND, 17 TEST1, 18 OSCIO, 19 SCL, 20 SDA, 21 TEST2, 22 SEG40, 23 SEG41, 24 SEG42, 25 SEG43, 26 SEG0, 27 SEG1, 28 SEG2, 29 SEG3, 30 SEG4, 31 SEG5, 32 SEG6, 33 SEG7, 34 SEG8, 35 SEG9, 36 SEG10, 37 SEG11, 38 SEG44, 39 SEG45, 40 SEG46, 41 SEG47, 42 SEG12, 43 SEG13, 44 SEG14, 45 SEG15, 46 SEG16, 47 SEG17, 48 SEG18, 49 SEG19, 50 SEG20, 51 SEG21, 52 SEG22, 53 SEG23, 54 SEG48, 55 SEG49, 56 SEG50, 57 SEG51, 58 SEG24, 59 SEG25, 60 SEG26, 61 SEG27, 62 SEG28, 63 SEG29, 64 SEG30

## TM1814
designator IC?
4通道 LED恒流驱动芯片; 版权归属: 源创客; BOM名称: 4通道 LED恒流驱动芯片; 学习资源: www.ooocke.com
footprint SOP8_N (5*6*1.8mm（长宽高）)
footprint SOP8_L (5*6*1.8mm（长宽高）)
footprint SOP8_M (5*6*1.8mm（长宽高）)
footprint DIP8-300 (9.4*7.6*3.8(长宽高）)
pins: 1 OUTR (in), 2 OUTG (in), 3 OUTB (in), 4 GND, 5 DO (out), 6 DIN (in), 7 VDD, 8 OUTW (in)

## TS5A3157
designator IC?
电子继电器; 版权归属: 源创客; BOM名称: 电子继电器; 学习资源: www.ooocke.com
footprint SOT23-6N (3x1.6x1.1mm(长宽高))
footprint SOT23-6L (3x1.6x1.1mm(长宽高))
footprint SOT23-6M (3x1.6x1.1mm(长宽高))
pins: 1 NO, 2 GND, 3 NC, 4 COM, 5 VCC, 6 IN

## TSC2046IPW
designator IC?
显示屏触摸驱动芯片; BOM名称: 触摸驱动芯片; 版权归属: 源创客; 学习资源: www.ooocke.com
footprint TSSOP16_N (5*6.4*1mm（长宽高）)
footprint TSSOP16_L (5*6.4*1mm（长宽高）)
footprint TSSOP16_M (5*6.4*1mm（长宽高）)
pins: 1 +VCC (power), 2 X+ (in), 3 Y+ (in), 4 X- (in), 5 Y- (in), 6 GND (power), 7 VBAT (power), 8 AUX (in), 9 VREF (power), 10 IOVDD (power), 11 ~{PENIRQ} (in), 12 DOUT (out), 13 BUSY (out), 14 DIN (in), 15 ~{CS} (in), 16 DCLK (in)

## TVP5150AM1
designator IC?
视频解码芯片; 版权归属: 源创客; BOM名称: 视频解码芯片; 学习资源: www.ooocke.com
footprint TQFP32 5x5_N (32脚，体宽：5x5mm, 脚距：0.5mm)
footprint TQFP32 5x5_L (32脚，体宽：5x5mm, 脚距：0.5mm)
footprint TQFP32 5x5_M (32脚，体宽：5x5mm, 脚距：0.5mm)
pins: 1 AIP1A, 2 AIP1B, 3 PLL_AGND, 4 PLL_AVDD, 5 XTAL1/OSC, 6 XTAL2, 7 AGND, 8 RESETB, 9 SCLK, 10 IO_DVDD, 11 YOUT7/I2CSEL, 12 YOUT6, 13 YOUT5, 14 YOUT4, 15 YOUT3, 16 YOUT2, 17 YOUT1, 18 YOUT0, 19 DGND, 20 DVDD, 21 SCL, 22 SDA, 23 FID/GLCO, 24 VSYNC/PALI, 25 HSYNC, 26 AVID, 27 INTERQ/GPCL/VBLK, 28 PDN, 29 REFP, 30 REFM, 31 CH_AGND, 32 CH_AVDD

## ULN2003-1
designator U?, comment ULN2003
达林顿驱动芯片; 版权归属: 源创客; BOM名称: 达林顿驱动芯片; 学习资源: www.ooocke.com
footprint DIP16-300 (19.3*7.6*3.8(长宽高）)
footprint SOP16_N (10.3*6.2*1.8mm（长宽高）)
footprint SOP16_L (10.3*6.2*1.8mm（长宽高）)
footprint SOP16_M (10.3*6.2*1.8mm（长宽高）)
part A pins: 1 IN1 (in), 8 GND, 9 VCC, 16 OUT1 (oc)
part B pins: 2 IN2 (in), 15 OUT2 (oc)
part C pins: 3 IN3 (in), 14 OUT3 (oc)
part D pins: 4 IN4 (in), 13 OUT4 (oc)
part E pins: 5 IN5 (in), 12 OUT5 (oc)
part F pins: 6 IN6 (in), 11 OUT6 (oc)
part G pins: 7 IN7 (in), 10 OUT7 (oc)

## ULN2003-2
designator U?, comment ULN2003
达林顿驱动芯片; 版权归属: 源创客; BOM名称: 达林顿驱动芯片; 学习资源: www.ooocke.com
footprint DIP16-300 (19.3*7.6*3.8(长宽高）)
footprint SOP16_N (10.3*6.2*1.8mm（长宽高）)
footprint SOP16_L (10.3*6.2*1.8mm（长宽高）)
footprint SOP16_M (10.3*6.2*1.8mm（长宽高）)
pins: 1 1B (in), 2 2B (in), 3 3B (in), 4 4B (in), 5 5B (in), 6 6B (in), 7 7B (in), 8 E, 9 COM, 10 7C (oc), 11 6C (oc), 12 5C (oc), 13 4C (oc), 14 3C (oc), 15 2C (oc), 16 1C (oc)

## W25Qxx
designator IC?
外置Flash; 版权归属: 源创客; BOM名称: 外置Flash; 学习资源: www.ooocke.com
footprint SOP8W_N (5.3*8.3*1.8mm（长宽高）)
footprint SOP8W_L (5.3*8.3*1.8mm（长宽高）)
footprint SOP8W_M (5.3*8.3*1.8mm（长宽高）)
pins: 1 ~{CS}, 2 DO, 3 ~{WP}, 4 GND, 5 DI, 6 CLK, 7 ~{HOLD}, 8 VCC

## WM8731
designator IC?
音频PCM编解码芯片; 版权归属: 源创客; BOM名称: 音频PCM编解码芯片; 学习资源: www.ooocke.com
footprint SSOP28_L (10.2*7.8*1.9mm(长宽高）)
footprint SSOP28_N (10.2*7.8*1.9mm(长宽高）)
footprint SSOP28_M (10.2*7.8*1.9mm(长宽高）)
pins: 1 DBVDD, 2 CLKOUT "DBVDD", 3 BCLK "DBVDD", 4 DACDAT "DBVDD", 5 DACLRC "DBVDD", 6 ADCDAT "DBVDD", 7 ADCLRC "DBVDD", 8 HPVDD "DBVDD", 9 LHPOUT "DBVDD", 10 RHPOUT "DBVDD", 11 HPGND "DBVDD", 12 LOUT "DBVDD", 13 ROUT "DBVDD", 14 AVDD "DBVDD", 15 AGND "DBVDD", 16 VMID "DBVDD", 17 MICBIAS "DBVDD", 18 MICIN "DBVDD", 19 RLNEIN "DBVDD", 20 LLINEIN "DBVDD", 21 MODE "DBVDD", 22 CSB "DBVDD", 23 SDIN "DBVDD", 24 SCLK "DBVDD", 25 XT/MCLK "DBVDD", 26 XTO "DBVDD", 27 DCVDD "DBVDD", 28 DGND "DBVDD"

## XF5152CE
designator IC?
语音识别合成芯片; BOM名称: 语音合成芯片; 版权归属: 源创客; 学习资源: www.ooocke.com
footprint LQFP64 10X10_N (64脚，体宽10x10mm，脚距0.5mm)
footprint LQFP64 10X10_M (64脚，体宽10x10mm，脚距0.5mm)
footprint LQFP64 10X10_L (64脚，体宽10x10mm，脚距0.5mm)
pins: 1 VDD12 "DBVDD", 2 UVCC "DBVDD", 3 RREF "DBVDD", 4 GND "DBVDD", 5 NC "DBVDD", 6 NC "DBVDD", 7 AVCC "DBVDD", 8 AO_P "DBVDD", 9 AO_N "DBVDD", 10 AGND "DBVDD", 11 VCM "DBVDD", 12 MIC_Bias "DBVDD", 13 MIC_N "DBVDD", 14 AGND "DBVDD", 15 MIC_P "DBVDD", 16 F_D0 "DBVDD", 17 AVCC "DBVDD", 18 VREF "DBVDD", 19 NC "DBVDD", 20 PWR_IN "DBVDD", 21 F_D1 "DBVDD", 22 VDD33_O "DBVDD", 23 VDD12_O "DBVDD", 24 AVDD12 "DBVDD", 25 GND "DBVDD", 26 XTALI "DBVDD", 27 XTALO "DBVDD", 28 RESRT "DBVDD", 29 A4 "DBVDD", 30 NC "DBVDD", 31 NC "DBVDD", 32 NC "DBVDD", 33 NC "DBVDD", 34 NC "DBVDD", 35 NC "DBVDD", 36 VDD33 "DBVDD", 37 GND "DBVDD", 38 NC "DBVDD", 39 RXD "DBVDD", 40 RDY "DBVDD", 41 TXD "DBVDD", 42 SPI_CLK "DBVDD", 43 SPI_SSEL "DBVDD", 44 SPI_SI "DBVDD", 45 SPI_SO "DBVDD", 46 VDD33 "DBVDD", 47 IIC_SCL "DBVDD", 48 IIC_SDA "DBVDD", 49 M_D2 "DBVDD", 50 F_D2 "DBVDD", 51 F_D3 "DBVDD", 52 GND "DBVDD", 53 A1 "DBVDD", 54 A2 "DBVDD", 55 BAUD2 "DBVDD", 56 BAUD1 "DBVDD", 57 M_D0 "DBVDD", 58 NC "DBVDD", 59 M_D3 "DBVDD", 60 M_D1 "DBVDD", 61 NC "DBVDD", 62 A3 "DBVDD", 63 NC "DBVDD", 64 GND "DBVDD"

## YX5200
designator IC?
MP3解码芯片; 版权归属: 源创客; BOM名称: MP3解码芯片; 学习资源: www.ooocke.com
footprint SSOP24_N (8.3*7.8*1.6（长宽高）)
footprint SSOP24_L (8.3*7.8*1.6（长宽高）)
footprint SSOP24_M (8.3*7.8*1.6（长宽高）)
pins: 1 DACL, 2 DACR, 3 3V3_IO, 4 VDD, 5 VSS, 6 TX, 7 RX, 8 AUXL, 9 AUXR, 10 GPIOA0, 11 BUSY, 12 SPI_CS, 13 SPI_DO, 14 SPI_CLK, 15 ADKEY2, 16 ADKEY1, 17 SD_CLK, 18 SD_CMD, 19 SD_DAT, 20 USB_D-, 21 USB_D+, 22 NC, 23 VCOM, 24 DACVSS

## 模板
designator ?
版权归属: 源创客; 学习资源: www.ooocke.com